# Altium schematic symbol library Drivers MOSFET.SchLib: 18 symbols
Pins are listed as number, name and electrical type; pins without a type are passive.

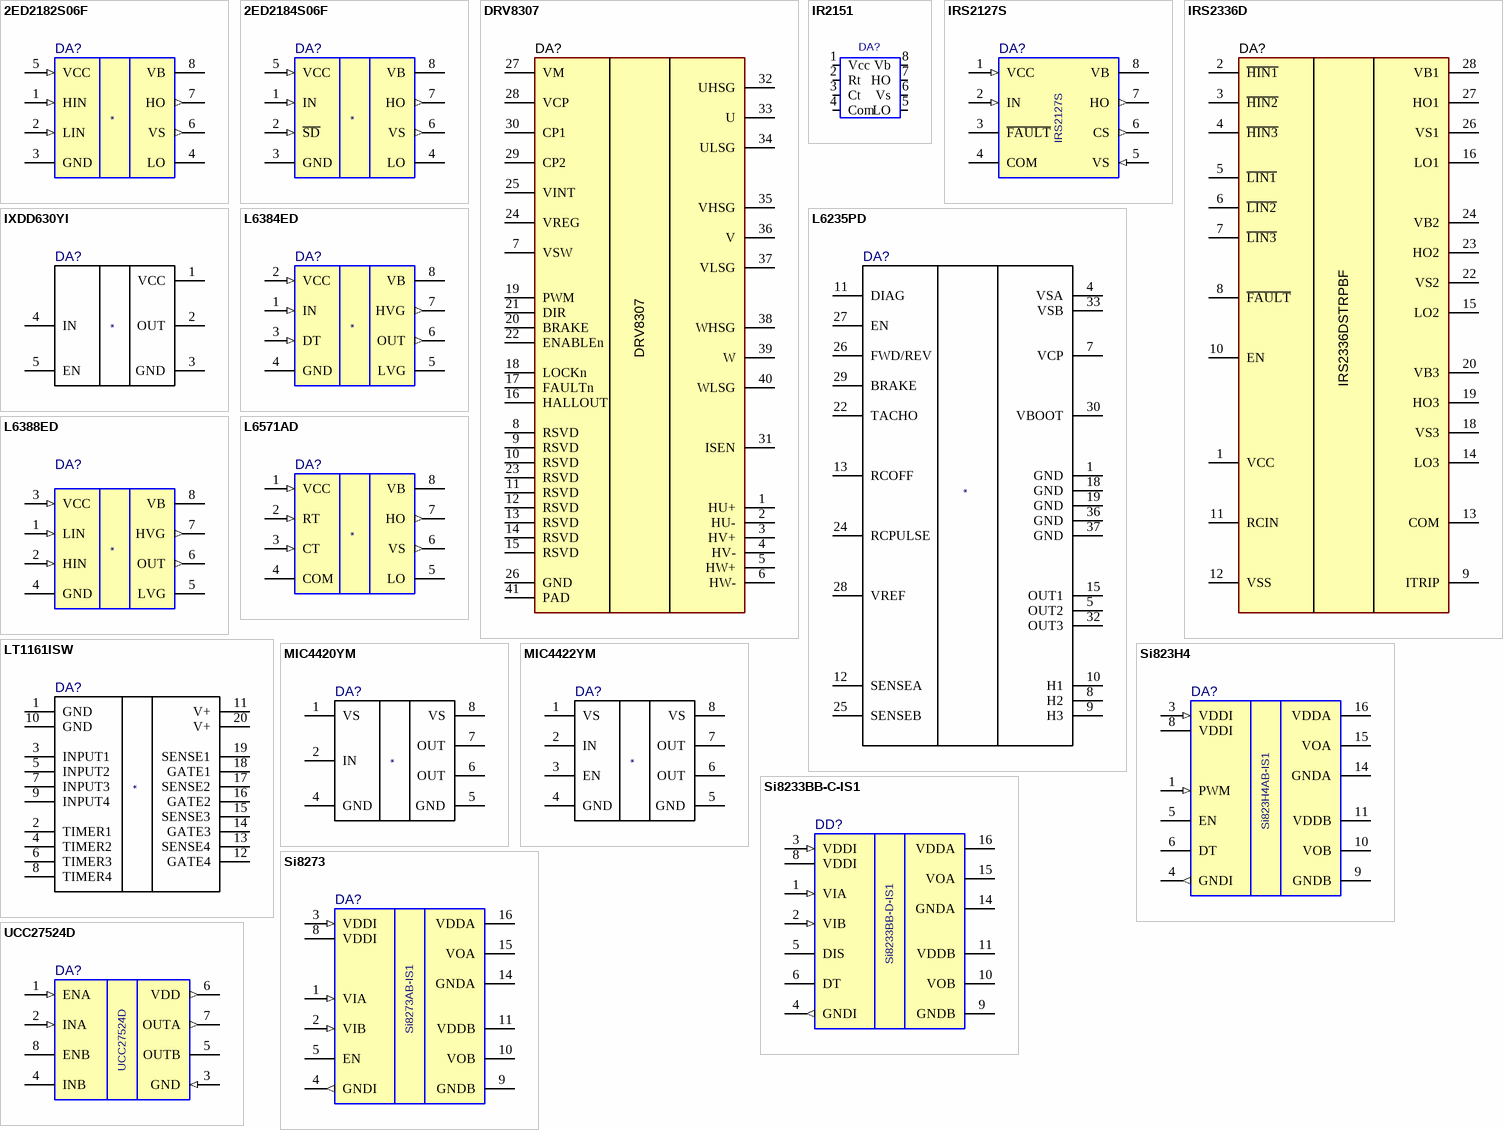
[diagram p0: symbols 2ED2182S06F to UCC27524D]

## 2ED2182S06F
designator DA?
footprint SOIC8 JEDEC
pins: 1 HIN (in), 2 LIN (in), 3 GND (power), 4 LO (power), 5 VCC (in), 6 VS (out), 7 HO (out), 8 VB (power)

## 2ED2184S06F
designator DA?
footprint SOIC8 JEDEC
pins: 1 IN (in), 2 ~{SD} (in), 3 GND (power), 4 LO (power), 5 VCC (in), 6 VS (out), 7 HO (out), 8 VB (power)

## DRV8307
designator DA?
Manufacturer: Texas Instruments; MFG Part Number: DRV8307RHAT; Digikey Part#: N/A; Value: N/A
footprint VQFN40 (QFN, 40-Leads, Body 6x6mm, Pitch 0.5mm, Thermal Pad 2.9x2.9mm, TI Recommended)
pins: 1 HU+, 2 HU-, 3 HV+, 4 HV-, 5 HW+, 6 HW-, 7 VSW, 8 RSVD, 9 RSVD, 10 RSVD, 11 RSVD, 12 RSVD, 13 RSVD, 14 RSVD, 15 RSVD, 16 HALLOUT, 17 FAULTn, 18 LOCKn, 19 PWM, 20 BRAKE, 21 DIR, 22 ENABLEn, 23 RSVD, 24 VREG, 25 VINT, 26 GND, 27 VM, 28 VCP, 29 CP2, 30 CP1, 31 ISEN, 32 UHSG, 33 U, 34 ULSG, 35 VHSG, 36 V, 37 VLSG, 38 WHSG, 39 W, 40 WLSG, 41 PAD

## IR2151
designator DA?  (value not drawn)
IR2151; Value: *
footprint DIP8
pins: 1 Vcc (power), 2 Rt, 3 Ct, 4 Com (power), 5 LO, 6 Vs, 7 HO, 8 Vb

## IRS2127S
designator DA?
footprint SOIC8 JEDEC
pins: 1 VCC (in), 2 IN (in), 3 ~{FAULT} (power), 4 COM (power), 5 VS (in), 6 CS (out), 7 HO (out), 8 VB (power)

## IRS2336D
designator DA?, comment IRS2336DSTRPBF
Manufacturer: International Rectifier; Digikey Part#: N/A; MFG Part Number: IRS2336DSTRPBF; Value: N/A
footprint SOIC-28-300
pins: 1 VCC, 2 ~{HIN1}, 3 ~{HIN2}, 4 ~{HIN3}, 5 ~{LIN1}, 6 ~{LIN2}, 7 ~{LIN3}, 8 ~{FAULT}, 9 ITRIP, 10 EN, 11 RCIN, 12 VSS, 13 COM, 14 LO3, 15 LO2, 16 LO1, 18 VS3, 19 HO3, 20 VB3, 22 VS2, 23 HO2, 24 VB2, 26 VS1, 27 HO1, 28 VB1

## IXDD630YI
designator DA?
footprint TO-263-5
pins: 1 VCC, 2 OUT, 3 GND, 4 IN, 5 EN

## L6235PD
designator DA?
footprint POWERSO36
pins: 1 GND, 4 VSA, 5 OUT2, 7 VCP, 8 H2, 9 H3, 10 H1, 11 DIAG, 12 SENSEA, 13 RCOFF, 15 OUT1, 18 GND, 19 GND, 22 TACHO, 24 RCPULSE, 25 SENSEB, 26 FWD/REV, 27 EN, 28 VREF, 29 BRAKE, 30 VBOOT, 32 OUT3, 33 VSB, 36 GND, 37 GND

## L6384ED
designator DA?
footprint SOIC8 JEDEC
pins: 1 IN (in), 2 VCC (in), 3 DT (in), 4 GND (power), 5 LVG (power), 6 OUT (out), 7 HVG (out), 8 VB (power)

## L6388ED
designator DA?
footprint SOIC8 JEDEC
pins: 1 LIN (in), 2 HIN (in), 3 VCC (in), 4 GND (power), 5 LVG (power), 6 OUT (out), 7 HVG (out), 8 VB (power)

## L6571AD
designator DA?
footprint SOIC8 JEDEC
pins: 1 VCC (in), 2 RT (in), 3 CT (in), 4 COM (power), 5 LO (power), 6 VS (out), 7 HO (out), 8 VB (power)

## LT1161ISW
designator DA?
footprint SO20
pins: 1 GND, 2 TIMER1, 3 INPUT1, 4 TIMER2, 5 INPUT2, 6 TIMER3, 7 INPUT3, 8 TIMER4, 9 INPUT4, 10 GND, 11 V+, 12 GATE4, 13 SENSE4, 14 GATE3, 15 SENSE3, 16 GATE2, 17 SENSE2, 18 GATE1, 19 SENSE1, 20 V+

## MIC4420YM
designator DA?
footprint SOIC8 JEDEC
pins: 1 VS, 2 IN, 4 GND, 5 GND, 6 OUT, 7 OUT, 8 VS

## MIC4422YM
designator DA?
footprint SOIC8 JEDEC
pins: 1 VS, 2 IN, 3 EN, 4 GND, 5 GND, 6 OUT, 7 OUT, 8 VS

## Si823H4
designator DA?, comment Si823H4AB-IS1
4.0 A Symmetric Drive ISODrivers with Low Propagation Delayand High Transient Immunity
footprint SOIC16
pins: 1 PWM (in), 3 VDDI (in), 4 GNDI (out), 5 EN (power), 6 DT (power), 8 VDDI (power), 9 GNDB (power), 10 VOB (power), 11 VDDB (power), 14 GNDA (power), 15 VOA (power), 16 VDDA (power)

## Si8233BB-C-IS1
designator DD?, comment Si8233BB-D-IS1
footprint SOIC16
pins: 1 VIA (in), 2 VIB (in), 3 VDDI (in), 4 GNDI (out), 5 DIS (power), 6 DT (power), 8 VDDI (power), 9 GNDB (power), 10 VOB (power), 11 VDDB (power), 14 GNDA (power), 15 VOA (power), 16 VDDA (power)

## Si8273
designator DA?, comment Si8273AB-IS1
4 Amp ISOdriver with High Transient (dV/dt) Immunity
footprint SOIC16
pins: 1 VIA (in), 2 VIB (in), 3 VDDI (in), 4 GNDI (out), 5 EN (power), 8 VDDI (power), 9 GNDB (power), 10 VOB (power), 11 VDDB (power), 14 GNDA (power), 15 VOA (power), 16 VDDA (power)

## UCC27524D
designator DA?
Dual 5-A High-Speed, Low-Side Gate Driver
footprint SOIC8 JEDEC
pins: 1 ENA (in), 2 INA (in), 3 GND (in), 4 INB (power), 5 OUTB (power), 6 VDD (out), 7 OUTA (out), 8 ENB (power)